# Altium integrated library NSC MiscPower.IntLib: 740 symbols (part 10 of 19)
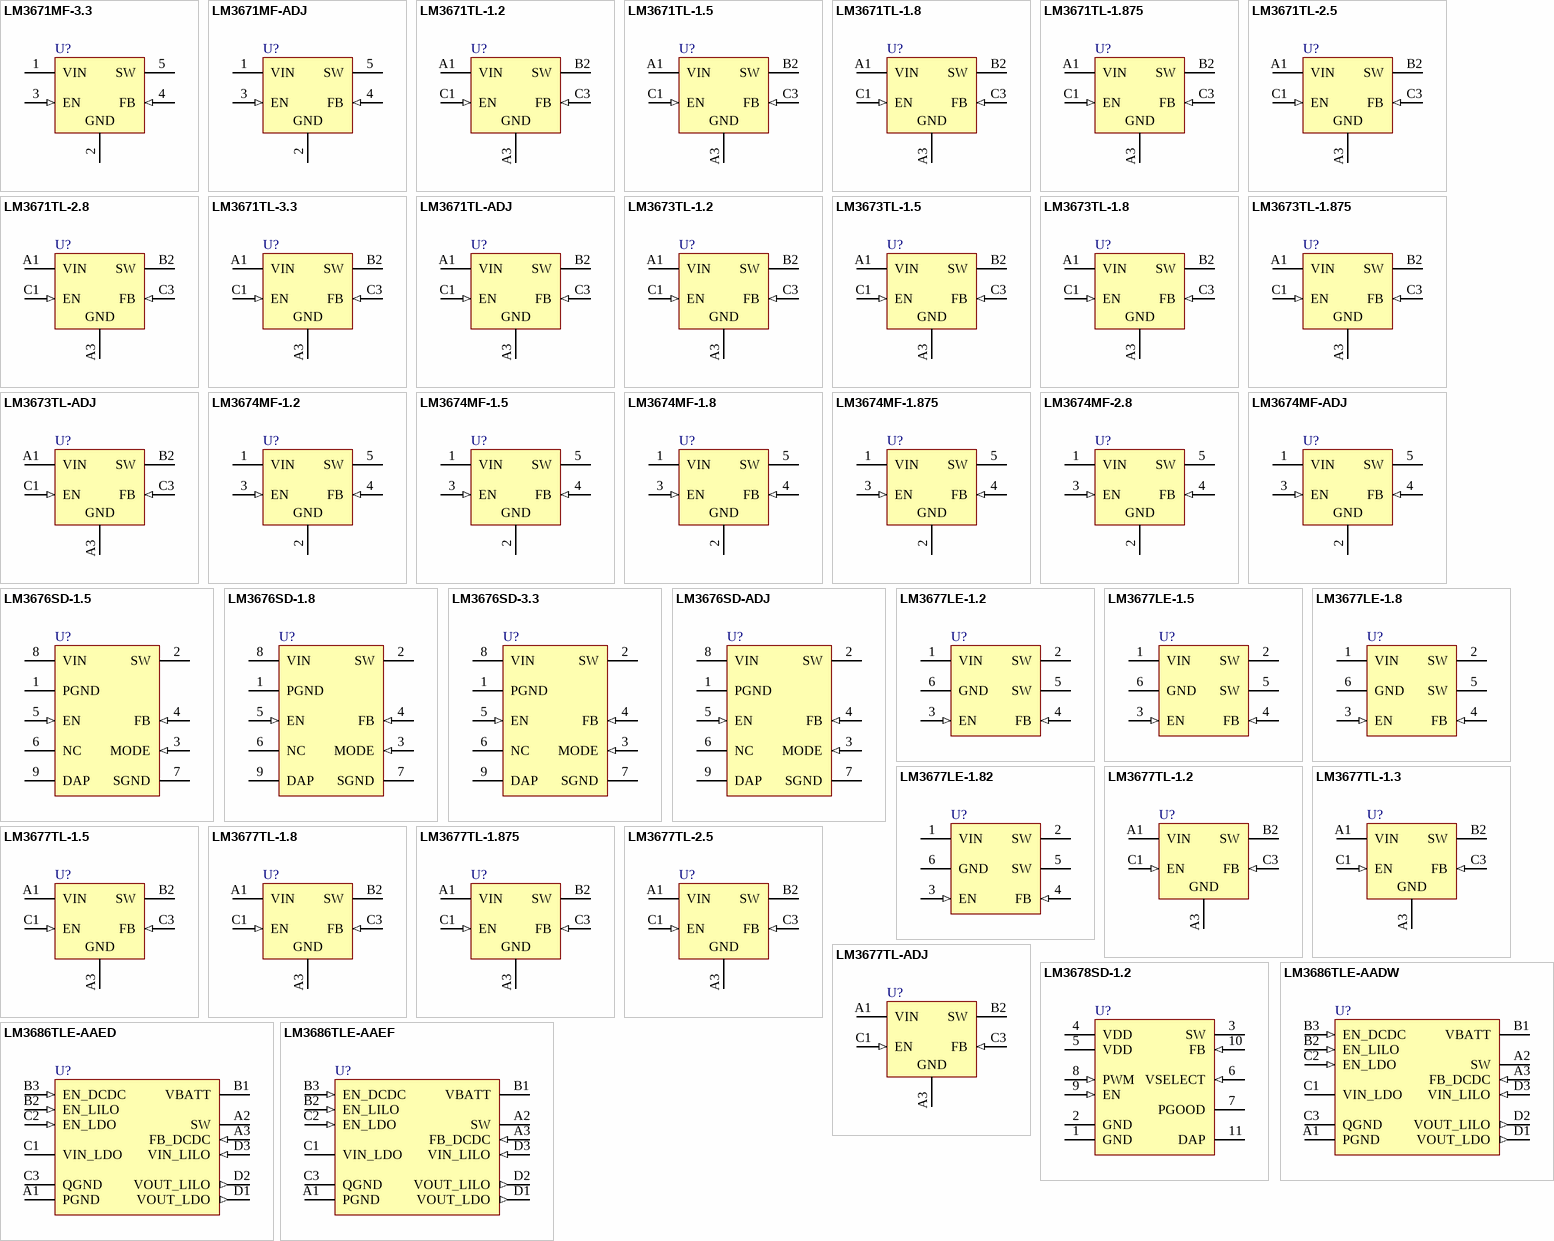
[diagram p34: symbols LM3671MF-3.3 to LM3686TLE-AAEF]

## LM3671TL-2.5
designator U?
2MHz, 600mA Step-Down DC-DC Converter; PartNumber: LM3671TL-2.5; Manufacturer: National Semiconductor; CompType: MiscPower; PackageTopMarking: XV*I L; PowerWise: Y; Published: 4-Dec-2008; DatasheetVersion: Nov-2007; PackageVersion: revC, Feb-2005; PackageReference: TLA05CBA; Publisher: Altium Limited; PackageDescription: Thin Micro SMD, 5 Bump (Large), 0.5mm Pitch; RoHS: Y; PinCount: 5; DigiKeyPartNumber: LM3671TL-2.5CT-ND; ComponentLink1Description: LM3671 Datasheet; ComponentLink1URL: http://www.national.com/ds/LM/LM3671.pdf; ComponentLink2Description: LM3671 Web Page; ComponentLink2URL: http://www.national.com/pf/LM/LM3671.html; ComponentLink3Description: TLA05CBA Package Page; ComponentLink3URL: http://www.national.com/packaging/folders/tla05cba.html
footprint TLA05CBA (Micro SMD, 5-Leads, Body 1.39x1.06mm, Pitch 0.5mm, NSC Recommended)
pins: A1 VIN (power), A3 GND (power), B2 SW (power), C1 EN (in), C3 FB (in)

## LM3671TL-2.8
designator U?
2MHz, 600mA Step-Down DC-DC Converter; PartNumber: LM3671TL-2.8; Manufacturer: National Semiconductor; CompType: MiscPower; PackageTopMarking: XV*I K; PowerWise: Y; Published: 4-Dec-2008; DatasheetVersion: Nov-2007; PackageVersion: revC, Feb-2005; PackageReference: TLA05CBA; Publisher: Altium Limited; PackageDescription: Thin Micro SMD, 5 Bump (Large), 0.5mm Pitch; RoHS: Y; PinCount: 5; DigiKeyPartNumber: LM3671TL-2.8CT-ND; ComponentLink1Description: LM3671 Datasheet; ComponentLink1URL: http://www.national.com/ds/LM/LM3671.pdf; ComponentLink2Description: LM3671 Web Page; ComponentLink2URL: http://www.national.com/pf/LM/LM3671.html; ComponentLink3Description: TLA05CBA Package Page; ComponentLink3URL: http://www.national.com/packaging/folders/tla05cba.html
footprint TLA05CBA (Micro SMD, 5-Leads, Body 1.39x1.06mm, Pitch 0.5mm, NSC Recommended)
pins: A1 VIN (power), A3 GND (power), B2 SW (power), C1 EN (in), C3 FB (in)

## LM3671TL-3.3
designator U?
2MHz, 600mA Step-Down DC-DC Converter; PartNumber: LM3671TL-3.3; Manufacturer: National Semiconductor; CompType: MiscPower; PackageTopMarking: XV*I J; PowerWise: Y; Published: 4-Dec-2008; DatasheetVersion: Nov-2007; PackageVersion: revC, Feb-2005; PackageReference: TLA05CBA; Publisher: Altium Limited; PackageDescription: Thin Micro SMD, 5 Bump (Large), 0.5mm Pitch; RoHS: Y; PinCount: 5; DigiKeyPartNumber: LM3671TL-3.3CT-ND; ComponentLink1Description: LM3671 Datasheet; ComponentLink1URL: http://www.national.com/ds/LM/LM3671.pdf; ComponentLink2Description: LM3671 Web Page; ComponentLink2URL: http://www.national.com/pf/LM/LM3671.html; ComponentLink3Description: TLA05CBA Package Page; ComponentLink3URL: http://www.national.com/packaging/folders/tla05cba.html
footprint TLA05CBA (Micro SMD, 5-Leads, Body 1.39x1.06mm, Pitch 0.5mm, NSC Recommended)
pins: A1 VIN (power), A3 GND (power), B2 SW (power), C1 EN (in), C3 FB (in)

## LM3671TL-ADJ
designator U?
2MHz, 600mA Step-Down DC-DC Converter; PartNumber: LM3671TL-ADJ; Manufacturer: National Semiconductor; CompType: MiscPower; PackageTopMarking: XV*I E; PowerWise: Y; Published: 4-Dec-2008; DatasheetVersion: Nov-2007; PackageVersion: revC, Feb-2005; PackageReference: TLA05CBA; Publisher: Altium Limited; PackageDescription: Thin Micro SMD, 5 Bump (Large), 0.5mm Pitch; RoHS: Y; PinCount: 5; DigiKeyPartNumber: LM3671TL-ADJCT-ND; ComponentLink1Description: LM3671 Datasheet; ComponentLink1URL: http://www.national.com/ds/LM/LM3671.pdf; ComponentLink2Description: LM3671 Web Page; ComponentLink2URL: http://www.national.com/pf/LM/LM3671.html; ComponentLink3Description: TLA05CBA Package Page; ComponentLink3URL: http://www.national.com/packaging/folders/tla05cba.html
footprint TLA05CBA (Micro SMD, 5-Leads, Body 1.39x1.06mm, Pitch 0.5mm, NSC Recommended)
pins: A1 VIN (power), A3 GND (power), B2 SW (power), C1 EN (in), C3 FB (in)

## LM3673TL-1.2
designator U?
2MHz, 350mA Step-Down DC-DC Converter; PartNumber: LM3673TL-1.2; Manufacturer: National Semiconductor; CompType: MiscPower; PackageTopMarking: XV*I 1; PowerWise: Y; Published: 4-Dec-2008; DatasheetVersion: Nov-2006; PackageVersion: revC, Feb-2005; PackageReference: TLA05CBA; Publisher: Altium Limited; PackageDescription: Thin Micro SMD, 5 Bump (Large), 0.5mm Pitch; RoHS: Y; PinCount: 5; DigiKeyPartNumber: LM3673TL-1.2CT-ND; ComponentLink1Description: LM3673 Datasheet; ComponentLink1URL: http://www.national.com/ds/LM/LM3673.pdf; ComponentLink2Description: LM3673 Web Page; ComponentLink2URL: http://www.national.com/pf/LM/LM3673.html; ComponentLink3Description: TLA05CBA Package Page; ComponentLink3URL: http://www.national.com/packaging/folders/tla05cba.html
footprint TLA05CBA (Micro SMD, 5-Leads, Body 1.39x1.06mm, Pitch 0.5mm, NSC Recommended)
pins: A1 VIN (power), A3 GND (power), B2 SW (power), C1 EN (in), C3 FB (in)

## LM3673TL-1.5
designator U?
2MHz, 350mA Step-Down DC-DC Converter; PartNumber: LM3673TL-1.5; Manufacturer: National Semiconductor; CompType: MiscPower; PackageTopMarking: XV*I H; PowerWise: Y; Published: 4-Dec-2008; DatasheetVersion: Nov-2006; PackageVersion: revC, Feb-2005; PackageReference: TLA05CBA; Publisher: Altium Limited; PackageDescription: Thin Micro SMD, 5 Bump (Large), 0.5mm Pitch; RoHS: Y; PinCount: 5; DigiKeyPartNumber: LM3673TL-1.5EV-ND; ComponentLink1Description: LM3673 Datasheet; ComponentLink1URL: http://www.national.com/ds/LM/LM3673.pdf; ComponentLink2Description: LM3673 Web Page; ComponentLink2URL: http://www.national.com/pf/LM/LM3673.html; ComponentLink3Description: TLA05CBA Package Page; ComponentLink3URL: http://www.national.com/packaging/folders/tla05cba.html
footprint TLA05CBA (Micro SMD, 5-Leads, Body 1.39x1.06mm, Pitch 0.5mm, NSC Recommended)
pins: A1 VIN (power), A3 GND (power), B2 SW (power), C1 EN (in), C3 FB (in)

## LM3673TL-1.8
designator U?
2MHz, 350mA Step-Down DC-DC Converter; PartNumber: LM3673TL-1.8; Manufacturer: National Semiconductor; CompType: MiscPower; PackageTopMarking: XV*I F; PowerWise: Y; Published: 4-Dec-2008; DatasheetVersion: Nov-2006; PackageVersion: revC, Feb-2005; PackageReference: TLA05CBA; Publisher: Altium Limited; PackageDescription: Thin Micro SMD, 5 Bump (Large), 0.5mm Pitch; RoHS: Y; PinCount: 5; DigiKeyPartNumber: LM3673TL-1.8CT-ND; ComponentLink1Description: LM3673 Datasheet; ComponentLink1URL: http://www.national.com/ds/LM/LM3673.pdf; ComponentLink2Description: LM3673 Web Page; ComponentLink2URL: http://www.national.com/pf/LM/LM3673.html; ComponentLink3Description: TLA05CBA Package Page; ComponentLink3URL: http://www.national.com/packaging/folders/tla05cba.html
footprint TLA05CBA (Micro SMD, 5-Leads, Body 1.39x1.06mm, Pitch 0.5mm, NSC Recommended)
pins: A1 VIN (power), A3 GND (power), B2 SW (power), C1 EN (in), C3 FB (in)

## LM3673TL-1.875
designator U?
2MHz, 350mA Step-Down DC-DC Converter; PartNumber: LM3673TL-1.875; Manufacturer: National Semiconductor; CompType: MiscPower; PackageTopMarking: XV*I 2; PowerWise: Y; Published: 4-Dec-2008; DatasheetVersion: Nov-2006; PackageVersion: revC, Feb-2005; PackageReference: TLA05CBA; Publisher: Altium Limited; PackageDescription: Thin Micro SMD, 5 Bump (Large), 0.5mm Pitch; RoHS: Y; PinCount: 5; DigiKeyPartNumber: LM3673TL-1.875CT-ND; ComponentLink1Description: LM3673 Datasheet; ComponentLink1URL: http://www.national.com/ds/LM/LM3673.pdf; ComponentLink2Description: LM3673 Web Page; ComponentLink2URL: http://www.national.com/pf/LM/LM3673.html; ComponentLink3Description: TLA05CBA Package Page; ComponentLink3URL: http://www.national.com/packaging/folders/tla05cba.html
footprint TLA05CBA (Micro SMD, 5-Leads, Body 1.39x1.06mm, Pitch 0.5mm, NSC Recommended)
pins: A1 VIN (power), A3 GND (power), B2 SW (power), C1 EN (in), C3 FB (in)

## LM3673TL-ADJ
designator U?
2MHz, 350mA Step-Down DC-DC Converter; PartNumber: LM3673TL-ADJ; Manufacturer: National Semiconductor; CompType: MiscPower; PackageTopMarking: XV*I R; PowerWise: Y; Published: 4-Dec-2008; DatasheetVersion: Nov-2006; PackageVersion: revC, Feb-2005; PackageReference: TLA05CBA; Publisher: Altium Limited; PackageDescription: Thin Micro SMD, 5 Bump (Large), 0.5mm Pitch; RoHS: Y; PinCount: 5; DigiKeyPartNumber: LM3673TL-ADJEV-ND; ComponentLink1Description: LM3673 Datasheet; ComponentLink1URL: http://www.national.com/ds/LM/LM3673.pdf; ComponentLink2Description: LM3673 Web Page; ComponentLink2URL: http://www.national.com/pf/LM/LM3673.html; ComponentLink3Description: TLA05CBA Package Page; ComponentLink3URL: http://www.national.com/packaging/folders/tla05cba.html
footprint TLA05CBA (Micro SMD, 5-Leads, Body 1.39x1.06mm, Pitch 0.5mm, NSC Recommended)
pins: A1 VIN (power), A3 GND (power), B2 SW (power), C1 EN (in), C3 FB (in)

## LM3674MF-1.2
designator U?
2MHz, 600mA Step-Down DC-DC Converter in SOT 23-5; PartNumber: LM3674MF-1.2; Manufacturer: National Semiconductor; CompType: MiscPower; PackageTopMarking: SLRB*XTT; PowerWise: Y; Published: 4-Dec-2008; DatasheetVersion: Sep-2006; PackageVersion: revD, Aug-2008; PackageReference: MF05A; Publisher: Altium Limited; PackageDescription: Molded SOT-23, .115 x .063 x .040 in Body, 5 Lead, .0375 in Pitch; RoHS: O; PinCount: 5; DigiKeyPartNumber: LM3674MF-1.2CT-ND; ComponentLink1Description: LM3674 Datasheet; ComponentLink1URL: http://www.national.com/ds/LM/LM3674.pdf; ComponentLink2Description: LM3674 Web Page; ComponentLink2URL: http://www.national.com/pf/LM/LM3674.html; ComponentLink3Description: MF05A Package Page; ComponentLink3URL: http://www.national.com/packaging/folders/mf05a.html
footprint MF05A_N (SOT23, 5-Leads, Body 2.9x1.6mm, Pitch 0.95mm, Lead Span 2.8mm, IPC Medium Density)
footprint MF05A_L (SOT23, 5-Leads, Body 2.9x1.6mm, Pitch 0.95mm, Lead Span 2.8mm, IPC High Density)
footprint MF05A_M (SOT23, 5-Leads, Body 2.9x1.6mm, Pitch 0.95mm, Lead Span 2.8mm, IPC Low Density)
pins: 1 VIN (power), 2 GND (power), 3 EN (in), 4 FB (in), 5 SW (power)

## LM3674MF-1.5
designator U?
2MHz, 600mA Step-Down DC-DC Converter in SOT 23-5; PartNumber: LM3674MF-1.5; Manufacturer: National Semiconductor; CompType: MiscPower; PackageTopMarking: SLSB*XTT; PowerWise: Y; Published: 4-Dec-2008; DatasheetVersion: Sep-2006; PackageVersion: revD, Aug-2008; PackageReference: MF05A; Publisher: Altium Limited; PackageDescription: Molded SOT-23, .115 x .063 x .040 in Body, 5 Lead, .0375 in Pitch; RoHS: Y; PinCount: 5; DigiKeyPartNumber: LM3674MF-1.5EV-ND; ComponentLink1Description: LM3674 Datasheet; ComponentLink1URL: http://www.national.com/ds/LM/LM3674.pdf; ComponentLink2Description: LM3674 Web Page; ComponentLink2URL: http://www.national.com/pf/LM/LM3674.html; ComponentLink3Description: MF05A Package Page; ComponentLink3URL: http://www.national.com/packaging/folders/mf05a.html
footprint MF05A_N (SOT23, 5-Leads, Body 2.9x1.6mm, Pitch 0.95mm, Lead Span 2.8mm, IPC Medium Density)
footprint MF05A_L (SOT23, 5-Leads, Body 2.9x1.6mm, Pitch 0.95mm, Lead Span 2.8mm, IPC High Density)
footprint MF05A_M (SOT23, 5-Leads, Body 2.9x1.6mm, Pitch 0.95mm, Lead Span 2.8mm, IPC Low Density)
pins: 1 VIN (power), 2 GND (power), 3 EN (in), 4 FB (in), 5 SW (power)

## LM3674MF-1.8
designator U?
2MHz, 600mA Step-Down DC-DC Converter in SOT 23-5; PartNumber: LM3674MF-1.8; Manufacturer: National Semiconductor; CompType: MiscPower; PackageTopMarking: SLHB*XTT; PowerWise: Y; Published: 4-Dec-2008; DatasheetVersion: Sep-2006; PackageVersion: revD, Aug-2008; PackageReference: MF05A; Publisher: Altium Limited; PackageDescription: Molded SOT-23, .115 x .063 x .040 in Body, 5 Lead, .0375 in Pitch; RoHS: O; PinCount: 5; DigiKeyPartNumber: LM3674MF-1.8EV-ND; ComponentLink1Description: LM3674 Datasheet; ComponentLink1URL: http://www.national.com/ds/LM/LM3674.pdf; ComponentLink2Description: LM3674 Web Page; ComponentLink2URL: http://www.national.com/pf/LM/LM3674.html; ComponentLink3Description: MF05A Package Page; ComponentLink3URL: http://www.national.com/packaging/folders/mf05a.html
footprint MF05A_N (SOT23, 5-Leads, Body 2.9x1.6mm, Pitch 0.95mm, Lead Span 2.8mm, IPC Medium Density)
footprint MF05A_L (SOT23, 5-Leads, Body 2.9x1.6mm, Pitch 0.95mm, Lead Span 2.8mm, IPC High Density)
footprint MF05A_M (SOT23, 5-Leads, Body 2.9x1.6mm, Pitch 0.95mm, Lead Span 2.8mm, IPC Low Density)
pins: 1 VIN (power), 2 GND (power), 3 EN (in), 4 FB (in), 5 SW (power)

## LM3674MF-1.875
designator U?
2MHz, 600mA Step-Down DC-DC Converter in SOT 23-5; PartNumber: LM3674MF-1.875; Manufacturer: National Semiconductor; CompType: MiscPower; PackageTopMarking: SNNB*XTT; PowerWise: Y; Published: 4-Dec-2008; DatasheetVersion: Sep-2006; PackageVersion: revD, Aug-2008; PackageReference: MF05A; Publisher: Altium Limited; PackageDescription: Molded SOT-23, .115 x .063 x .040 in Body, 5 Lead, .0375 in Pitch; RoHS: Y; PinCount: 5; DigiKeyPartNumber: LM3674MF-1.875CT-ND; ComponentLink1Description: LM3674 Datasheet; ComponentLink1URL: http://www.national.com/ds/LM/LM3674.pdf; ComponentLink2Description: LM3674 Web Page; ComponentLink2URL: http://www.national.com/pf/LM/LM3674.html; ComponentLink3Description: MF05A Package Page; ComponentLink3URL: http://www.national.com/packaging/folders/mf05a.html
footprint MF05A_N (SOT23, 5-Leads, Body 2.9x1.6mm, Pitch 0.95mm, Lead Span 2.8mm, IPC Medium Density)
footprint MF05A_L (SOT23, 5-Leads, Body 2.9x1.6mm, Pitch 0.95mm, Lead Span 2.8mm, IPC High Density)
footprint MF05A_M (SOT23, 5-Leads, Body 2.9x1.6mm, Pitch 0.95mm, Lead Span 2.8mm, IPC Low Density)
pins: 1 VIN (power), 2 GND (power), 3 EN (in), 4 FB (in), 5 SW (power)

## LM3674MF-2.8
designator U?
2MHz, 600mA Step-Down DC-DC Converter in SOT 23-5; PartNumber: LM3674MF-2.8; Manufacturer: National Semiconductor; CompType: MiscPower; PackageTopMarking: SLZB*XTT; PowerWise: Y; Published: 4-Dec-2008; DatasheetVersion: Sep-2006; PackageVersion: revD, Aug-2008; PackageReference: MF05A; Publisher: Altium Limited; PackageDescription: Molded SOT-23, .115 x .063 x .040 in Body, 5 Lead, .0375 in Pitch; RoHS: Y; PinCount: 5; DigiKeyPartNumber: LM3674MF-2.8CT-ND; ComponentLink1Description: LM3674 Datasheet; ComponentLink1URL: http://www.national.com/ds/LM/LM3674.pdf; ComponentLink2Description: LM3674 Web Page; ComponentLink2URL: http://www.national.com/pf/LM/LM3674.html; ComponentLink3Description: MF05A Package Page; ComponentLink3URL: http://www.national.com/packaging/folders/mf05a.html
footprint MF05A_N (SOT23, 5-Leads, Body 2.9x1.6mm, Pitch 0.95mm, Lead Span 2.8mm, IPC Medium Density)
footprint MF05A_L (SOT23, 5-Leads, Body 2.9x1.6mm, Pitch 0.95mm, Lead Span 2.8mm, IPC High Density)
footprint MF05A_M (SOT23, 5-Leads, Body 2.9x1.6mm, Pitch 0.95mm, Lead Span 2.8mm, IPC Low Density)
pins: 1 VIN (power), 2 GND (power), 3 EN (in), 4 FB (in), 5 SW (power)

## LM3674MF-ADJ
designator U?
2MHz, 600mA Step-Down DC-DC Converter in SOT 23-5; PartNumber: LM3674MF-ADJ; Manufacturer: National Semiconductor; CompType: MiscPower; PackageTopMarking: SLTB*XTT; PowerWise: Y; Published: 4-Dec-2008; DatasheetVersion: Sep-2006; PackageVersion: revD, Aug-2008; PackageReference: MF05A; Publisher: Altium Limited; PackageDescription: Molded SOT-23, .115 x .063 x .040 in Body, 5 Lead, .0375 in Pitch; RoHS: O; PinCount: 5; DigiKeyPartNumber: LM3674MF-ADJEV-ND; ComponentLink1Description: LM3674 Datasheet; ComponentLink1URL: http://www.national.com/ds/LM/LM3674.pdf; ComponentLink2Description: LM3674 Web Page; ComponentLink2URL: http://www.national.com/pf/LM/LM3674.html; ComponentLink3Description: MF05A Package Page; ComponentLink3URL: http://www.national.com/packaging/folders/mf05a.html
footprint MF05A_N (SOT23, 5-Leads, Body 2.9x1.6mm, Pitch 0.95mm, Lead Span 2.8mm, IPC Medium Density)
footprint MF05A_L (SOT23, 5-Leads, Body 2.9x1.6mm, Pitch 0.95mm, Lead Span 2.8mm, IPC High Density)
footprint MF05A_M (SOT23, 5-Leads, Body 2.9x1.6mm, Pitch 0.95mm, Lead Span 2.8mm, IPC Low Density)
pins: 1 VIN (power), 2 GND (power), 3 EN (in), 4 FB (in), 5 SW (power)

## LM3676SD-1.5
designator U?
2MHz, 600mA Step-Down DC-DC Converter with Mode Control; PartNumber: LM3676SD-1.5; Manufacturer: National Semiconductor; CompType: MiscPower; PackageTopMarking: ZXYTT*S007B; PowerWise: N; Published: 4-Dec-2008; DatasheetVersion: Dec-2006; PackageVersion: revA, Aug-2003; PackageReference: SDA08A; Publisher: Altium Limited; PackageDescription: LLP, Plastic, Dual, 3 x 3 x 0.8mm Body, 8 Lead, 0.5mm Pitch, No Pullback; RoHS: Y; PinCount: 8; DigiKeyPartNumber: LM3676SD-1.5CT-ND; ComponentLink1Description: LM3676 Datasheet; ComponentLink1URL: http://www.national.com/ds/LM/LM3676.pdf; ComponentLink2Description: LM3676 Web Page; ComponentLink2URL: http://www.national.com/pf/LM/LM3676.html; ComponentLink3Description: SDA08A Package Page; ComponentLink3URL: http://www.national.com/packaging/folders/sda08a.html
footprint SDA08A (SON, 8-Leads, Body 3x3mm, Pitch 0.5mm, NSC Recommended)
pins: 1 PGND (power), 2 SW (power), 3 MODE (in), 4 FB (in), 5 EN (in), 6 NC, 7 SGND (power), 8 VIN (power), 9 DAP (power)

## LM3676SD-1.8
designator U?
2MHz, 600mA Step-Down DC-DC Converter with Mode Control; PartNumber: LM3676SD-1.8; Manufacturer: National Semiconductor; CompType: MiscPower; PackageTopMarking: ZXYTT*S009B; PowerWise: N; Published: 4-Dec-2008; DatasheetVersion: Dec-2006; PackageVersion: revA, Aug-2003; PackageReference: SDA08A; Publisher: Altium Limited; PackageDescription: LLP, Plastic, Dual, 3 x 3 x 0.8mm Body, 8 Lead, 0.5mm Pitch, No Pullback; RoHS: Y; PinCount: 8; DigiKeyPartNumber: LM3676SD-1.8CT-ND; ComponentLink1Description: LM3676 Datasheet; ComponentLink1URL: http://www.national.com/ds/LM/LM3676.pdf; ComponentLink2Description: LM3676 Web Page; ComponentLink2URL: http://www.national.com/pf/LM/LM3676.html; ComponentLink3Description: SDA08A Package Page; ComponentLink3URL: http://www.national.com/packaging/folders/sda08a.html
footprint SDA08A (SON, 8-Leads, Body 3x3mm, Pitch 0.5mm, NSC Recommended)
pins: 1 PGND (power), 2 SW (power), 3 MODE (in), 4 FB (in), 5 EN (in), 6 NC, 7 SGND (power), 8 VIN (power), 9 DAP (power)

## LM3676SD-3.3
designator U?
2MHz, 600mA Step-Down DC-DC Converter with Mode Control; PartNumber: LM3676SD-3.3; Manufacturer: National Semiconductor; CompType: MiscPower; PackageTopMarking: ZXYTT*S010B; PowerWise: N; Published: 4-Dec-2008; DatasheetVersion: Dec-2006; PackageVersion: revA, Aug-2003; PackageReference: SDA08A; Publisher: Altium Limited; PackageDescription: LLP, Plastic, Dual, 3 x 3 x 0.8mm Body, 8 Lead, 0.5mm Pitch, No Pullback; RoHS: Y; PinCount: 8; DigiKeyPartNumber: LM3676SD-3.3CT-ND; ComponentLink1Description: LM3676 Datasheet; ComponentLink1URL: http://www.national.com/ds/LM/LM3676.pdf; ComponentLink2Description: LM3676 Web Page; ComponentLink2URL: http://www.national.com/pf/LM/LM3676.html; ComponentLink3Description: SDA08A Package Page; ComponentLink3URL: http://www.national.com/packaging/folders/sda08a.html
footprint SDA08A (SON, 8-Leads, Body 3x3mm, Pitch 0.5mm, NSC Recommended)
pins: 1 PGND (power), 2 SW (power), 3 MODE (in), 4 FB (in), 5 EN (in), 6 NC, 7 SGND (power), 8 VIN (power), 9 DAP (power)

## LM3676SD-ADJ
designator U?
2MHz, 600mA Step-Down DC-DC Converter with Mode Control; PartNumber: LM3676SD-ADJ; Manufacturer: National Semiconductor; CompType: MiscPower; PackageTopMarking: ZXYTT*S008B; PowerWise: N; Published: 4-Dec-2008; DatasheetVersion: Dec-2006; PackageVersion: revA, Aug-2003; PackageReference: SDA08A; Publisher: Altium Limited; PackageDescription: LLP, Plastic, Dual, 3 x 3 x 0.8mm Body, 8 Lead, 0.5mm Pitch, No Pullback; RoHS: Y; PinCount: 8; DigiKeyPartNumber: LM3676SD-ADJEV-ND; ComponentLink1Description: LM3676 Datasheet; ComponentLink1URL: http://www.national.com/ds/LM/LM3676.pdf; ComponentLink2Description: LM3676 Web Page; ComponentLink2URL: http://www.national.com/pf/LM/LM3676.html; ComponentLink3Description: SDA08A Package Page; ComponentLink3URL: http://www.national.com/packaging/folders/sda08a.html
footprint SDA08A (SON, 8-Leads, Body 3x3mm, Pitch 0.5mm, NSC Recommended)
pins: 1 PGND (power), 2 SW (power), 3 MODE (in), 4 FB (in), 5 EN (in), 6 NC, 7 SGND (power), 8 VIN (power), 9 DAP (power)

## LM3677LE-1.2
designator U?
3MHz, 600mA Miniature Step-Down DC-DC Converter for Ultra Low Voltage Circuits; PartNumber: LM3677LE-1.2; Manufacturer: National Semiconductor; CompType: MiscPower; PackageTopMarking: XVK; PowerWise: N; Published: 4-Dec-2008; DatasheetVersion: Feb-2008; PackageVersion: revB, Apr-2008; PackageReference: LEB06A; Publisher: Altium Limited; PackageDescription: LLP, 2 x 1.5 x 0.6mm, 6 Lead, 0.5mm Pitch, No Pullback; RoHS: Y; PinCount: 6; DigiKeyPartNumber: LM3677LE-1.2-ND; ComponentLink1Description: LM3677 Datasheet; ComponentLink1URL: http://www.national.com/ds/LM/LM3677.pdf; ComponentLink2Description: LM3677 Web Page; ComponentLink2URL: http://www.national.com/pf/LM/LM3677.html; ComponentLink3Description: LEB06A Package Page; ComponentLink3URL: http://www.national.com/packaging/folders/leb06a.html
footprint LEB06A (SON, 6-Leads, Body 2x1.5mm, Pitch 0.5mm, NSC Recommended)
pins: 1 VIN (power), 2 SW (power), 3 EN (in), 4 FB (in), 5 SW (power), 6 GND (power)

## LM3677LE-1.5
designator U?
3MHz, 600mA Miniature Step-Down DC-DC Converter for Ultra Low Voltage Circuits; PartNumber: LM3677LE-1.5; Manufacturer: National Semiconductor; CompType: MiscPower; PackageTopMarking: XVL; PowerWise: N; Published: 4-Dec-2008; DatasheetVersion: Feb-2008; PackageVersion: revB, Apr-2008; PackageReference: LEB06A; Publisher: Altium Limited; PackageDescription: LLP, 2 x 1.5 x 0.6mm, 6 Lead, 0.5mm Pitch, No Pullback; RoHS: Y; PinCount: 6; DigiKeyPartNumber: LM3677LE-1.5-ND; ComponentLink1Description: LM3677 Datasheet; ComponentLink1URL: http://www.national.com/ds/LM/LM3677.pdf; ComponentLink2Description: LM3677 Web Page; ComponentLink2URL: http://www.national.com/pf/LM/LM3677.html; ComponentLink3Description: LEB06A Package Page; ComponentLink3URL: http://www.national.com/packaging/folders/leb06a.html
footprint LEB06A (SON, 6-Leads, Body 2x1.5mm, Pitch 0.5mm, NSC Recommended)
pins: 1 VIN (power), 2 SW (power), 3 EN (in), 4 FB (in), 5 SW (power), 6 GND (power)

## LM3677LE-1.8
designator U?
3MHz, 600mA Miniature Step-Down DC-DC Converter for Ultra Low Voltage Circuits; PartNumber: LM3677LE-1.8; Manufacturer: National Semiconductor; CompType: MiscPower; PackageTopMarking: XVN; PowerWise: Y; Published: 4-Dec-2008; DatasheetVersion: Feb-2008; PackageVersion: revB, Apr-2008; PackageReference: LEB06A; Publisher: Altium Limited; PackageDescription: LLP, 2 x 1.5 x 0.6mm, 6 Lead, 0.5mm Pitch, No Pullback; RoHS: Y; PinCount: 6; DigiKeyPartNumber: LM3677LE-1.8-ND; ComponentLink1Description: LM3677 Datasheet; ComponentLink1URL: http://www.national.com/ds/LM/LM3677.pdf; ComponentLink2Description: LM3677 Web Page; ComponentLink2URL: http://www.national.com/pf/LM/LM3677.html; ComponentLink3Description: LEB06A Package Page; ComponentLink3URL: http://www.national.com/packaging/folders/leb06a.html
footprint LEB06A (SON, 6-Leads, Body 2x1.5mm, Pitch 0.5mm, NSC Recommended)
pins: 1 VIN (power), 2 SW (power), 3 EN (in), 4 FB (in), 5 SW (power), 6 GND (power)

## LM3677LE-1.82
designator U?
3MHz, 600mA Miniature Step-Down DC-DC Converter for Ultra Low Voltage Circuits; PartNumber: LM3677LE-1.82; Manufacturer: National Semiconductor; CompType: MiscPower; PackageTopMarking: XV5; PowerWise: N; Published: 4-Dec-2008; DatasheetVersion: Feb-2008; PackageVersion: revB, Apr-2008; PackageReference: LEB06A; Publisher: Altium Limited; PackageDescription: LLP, 2 x 1.5 x 0.6mm, 6 Lead, 0.5mm Pitch, No Pullback; RoHS: Y; PinCount: 6; ComponentLink1Description: LM3677 Datasheet; ComponentLink1URL: http://www.national.com/ds/LM/LM3677.pdf; ComponentLink2Description: LM3677 Web Page; ComponentLink2URL: http://www.national.com/pf/LM/LM3677.html; ComponentLink3Description: LEB06A Package Page; ComponentLink3URL: http://www.national.com/packaging/folders/leb06a.html
footprint LEB06A (SON, 6-Leads, Body 2x1.5mm, Pitch 0.5mm, NSC Recommended)
pins: 1 VIN (power), 2 SW (power), 3 EN (in), 4 FB (in), 5 SW (power), 6 GND (power)

## LM3677TL-1.2
designator U?
3MHz, 600mA Miniature Step-Down DC-DC Converter for Ultra Low Voltage Circuits; PartNumber: LM3677TL-1.2; Manufacturer: National Semiconductor; CompType: MiscPower; PackageTopMarking: XV*I 3; PowerWise: N; Published: 4-Dec-2008; DatasheetVersion: Feb-2008; PackageVersion: revC, Feb-2005; PackageReference: TLA05EFA; Publisher: Altium Limited; PackageDescription: Thin Micro SMD, 5 Bump (Large), 0.5mm Pitch; RoHS: Y; PinCount: 5; DigiKeyPartNumber: LM3677TL-1.2-ND; ComponentLink1Description: LM3677 Datasheet; ComponentLink1URL: http://www.national.com/ds/LM/LM3677.pdf; ComponentLink2Description: LM3677 Web Page; ComponentLink2URL: http://www.national.com/pf/LM/LM3677.html; ComponentLink3Description: TLA05EFA Package Page; ComponentLink3URL: http://www.national.com/packaging/folders/tla05efa.html
footprint TLA05EFA (Micro SMD, 5-Leads, Body 1.49x1.11mm, Pitch 0.5mm, NSC Recommended)
pins: A1 VIN (power), A3 GND (power), B2 SW (power), C1 EN (in), C3 FB (in)

## LM3677TL-1.3
designator U?
3MHz, 600mA Miniature Step-Down DC-DC Converter for Ultra Low Voltage Circuits; PartNumber: LM3677TL-1.3; Manufacturer: National Semiconductor; CompType: MiscPower; PackageTopMarking: XV*I V; PowerWise: Y; Published: 4-Dec-2008; DatasheetVersion: Feb-2008; PackageVersion: revC, Feb-2005; PackageReference: TLA05EFA; Publisher: Altium Limited; PackageDescription: Thin Micro SMD, 5 Bump (Large), 0.5mm Pitch; RoHS: Y; PinCount: 5; DigiKeyPartNumber: LM3677TL-1.3CT-ND; ComponentLink1Description: LM3677 Datasheet; ComponentLink1URL: http://www.national.com/ds/LM/LM3677.pdf; ComponentLink2Description: LM3677 Web Page; ComponentLink2URL: http://www.national.com/pf/LM/LM3677.html; ComponentLink3Description: TLA05EFA Package Page; ComponentLink3URL: http://www.national.com/packaging/folders/tla05efa.html
footprint TLA05EFA (Micro SMD, 5-Leads, Body 1.49x1.11mm, Pitch 0.5mm, NSC Recommended)
pins: A1 VIN (power), A3 GND (power), B2 SW (power), C1 EN (in), C3 FB (in)

## LM3677TL-1.5
designator U?
3MHz, 600mA Miniature Step-Down DC-DC Converter for Ultra Low Voltage Circuits; PartNumber: LM3677TL-1.5; Manufacturer: National Semiconductor; CompType: MiscPower; PackageTopMarking: XV*I X; PowerWise: Y; Published: 4-Dec-2008; DatasheetVersion: Feb-2008; PackageVersion: revC, Feb-2005; PackageReference: TLA05EFA; Publisher: Altium Limited; PackageDescription: Thin Micro SMD, 5 Bump (Large), 0.5mm Pitch; RoHS: Y; PinCount: 5; DigiKeyPartNumber: LM3677TL-1.5CT-ND; ComponentLink1Description: LM3677 Datasheet; ComponentLink1URL: http://www.national.com/ds/LM/LM3677.pdf; ComponentLink2Description: LM3677 Web Page; ComponentLink2URL: http://www.national.com/pf/LM/LM3677.html; ComponentLink3Description: TLA05EFA Package Page; ComponentLink3URL: http://www.national.com/packaging/folders/tla05efa.html
footprint TLA05EFA (Micro SMD, 5-Leads, Body 1.49x1.11mm, Pitch 0.5mm, NSC Recommended)
pins: A1 VIN (power), A3 GND (power), B2 SW (power), C1 EN (in), C3 FB (in)

## LM3677TL-1.8
designator U?
3MHz, 600mA Miniature Step-Down DC-DC Converter for Ultra Low Voltage Circuits; PartNumber: LM3677TL-1.8; Manufacturer: National Semiconductor; CompType: MiscPower; PackageTopMarking: XV*I Y; PowerWise: Y; Published: 4-Dec-2008; DatasheetVersion: Feb-2008; PackageVersion: revC, Feb-2005; PackageReference: TLA05EFA; Publisher: Altium Limited; PackageDescription: Thin Micro SMD, 5 Bump (Large), 0.5mm Pitch; RoHS: Y; PinCount: 5; DigiKeyPartNumber: LM3677TL-1.8EV-ND; ComponentLink1Description: LM3677 Datasheet; ComponentLink1URL: http://www.national.com/ds/LM/LM3677.pdf; ComponentLink2Description: LM3677 Web Page; ComponentLink2URL: http://www.national.com/pf/LM/LM3677.html; ComponentLink3Description: TLA05EFA Package Page; ComponentLink3URL: http://www.national.com/packaging/folders/tla05efa.html
footprint TLA05EFA (Micro SMD, 5-Leads, Body 1.49x1.11mm, Pitch 0.5mm, NSC Recommended)
pins: A1 VIN (power), A3 GND (power), B2 SW (power), C1 EN (in), C3 FB (in)

## LM3677TL-1.875
designator U?
3MHz, 600mA Miniature Step-Down DC-DC Converter for Ultra Low Voltage Circuits; PartNumber: LM3677TL-1.875; Manufacturer: National Semiconductor; CompType: MiscPower; PackageTopMarking: XV*I 9; PowerWise: N; Published: 4-Dec-2008; DatasheetVersion: Feb-2008; PackageVersion: revC, Feb-2005; PackageReference: TLA05EFA; Publisher: Altium Limited; PackageDescription: Thin Micro SMD, 5 Bump (Large), 0.5mm Pitch; RoHS: Y; PinCount: 5; ComponentLink1Description: LM3677 Datasheet; ComponentLink1URL: http://www.national.com/ds/LM/LM3677.pdf; ComponentLink2Description: LM3677 Web Page; ComponentLink2URL: http://www.national.com/pf/LM/LM3677.html; ComponentLink3Description: TLA05EFA Package Page; ComponentLink3URL: http://www.national.com/packaging/folders/tla05efa.html
footprint TLA05EFA (Micro SMD, 5-Leads, Body 1.49x1.11mm, Pitch 0.5mm, NSC Recommended)
pins: A1 VIN (power), A3 GND (power), B2 SW (power), C1 EN (in), C3 FB (in)

## LM3677TL-2.5
designator U?
3MHz, 600mA Miniature Step-Down DC-DC Converter for Ultra Low Voltage Circuits; PartNumber: LM3677TL-2.5; Manufacturer: National Semiconductor; CompType: MiscPower; PackageTopMarking: XV*I Z; PowerWise: Y; Published: 4-Dec-2008; DatasheetVersion: Feb-2008; PackageVersion: revC, Feb-2005; PackageReference: TLA05EFA; Publisher: Altium Limited; PackageDescription: Thin Micro SMD, 5 Bump (Large), 0.5mm Pitch; RoHS: Y; PinCount: 5; DigiKeyPartNumber: LM3677TL-2.5CT-ND; ComponentLink1Description: LM3677 Datasheet; ComponentLink1URL: http://www.national.com/ds/LM/LM3677.pdf; ComponentLink2Description: LM3677 Web Page; ComponentLink2URL: http://www.national.com/pf/LM/LM3677.html; ComponentLink3Description: TLA05EFA Package Page; ComponentLink3URL: http://www.national.com/packaging/folders/tla05efa.html
footprint TLA05EFA (Micro SMD, 5-Leads, Body 1.49x1.11mm, Pitch 0.5mm, NSC Recommended)
pins: A1 VIN (power), A3 GND (power), B2 SW (power), C1 EN (in), C3 FB (in)

## LM3677TL-ADJ
designator U?
3MHz, 600mA Miniature Step-Down DC-DC Converter for Ultra Low Voltage Circuits; PartNumber: LM3677TL-ADJ; Manufacturer: National Semiconductor; CompType: MiscPower; PackageTopMarking: XV*I 4; PowerWise: N; Published: 4-Dec-2008; DatasheetVersion: Feb-2008; PackageVersion: revC, Feb-2005; PackageReference: TLA05EFA; Publisher: Altium Limited; PackageDescription: Thin Micro SMD, 5 Bump (Large), 0.5mm Pitch; RoHS: Y; PinCount: 5; DigiKeyPartNumber: LM3677TL-ADJ-ND; ComponentLink1Description: LM3677 Datasheet; ComponentLink1URL: http://www.national.com/ds/LM/LM3677.pdf; ComponentLink2Description: LM3677 Web Page; ComponentLink2URL: http://www.national.com/pf/LM/LM3677.html; ComponentLink3Description: TLA05EFA Package Page; ComponentLink3URL: http://www.national.com/packaging/folders/tla05efa.html
footprint TLA05EFA (Micro SMD, 5-Leads, Body 1.49x1.11mm, Pitch 0.5mm, NSC Recommended)
pins: A1 VIN (power), A3 GND (power), B2 SW (power), C1 EN (in), C3 FB (in)

## LM3678SD-1.2
designator U?
High-Performance, Miniature 1.5A Step-Down DC-DC Converter for Handheld Applications; PartNumber: LM3678SD-1.2; Manufacturer: National Semiconductor; CompType: MiscPower; PackageTopMarking: ZXYTT*S021B; PowerWise: Y; Published: 4-Dec-2008; DatasheetVersion: Jul-2008; PackageVersion: revA, Oct-2003; PackageReference: SDA10A; Publisher: Altium Limited; PackageDescription: LLP, Plastic, Dual, 3 x 3 x 0.8mm Body, 10 Lead, 0.5mm Pitch, No Pullback; RoHS: Y; PinCount: 10; DigiKeyPartNumber: LM3678SD-1.2EV-ND; ComponentLink1Description: LM3678 Datasheet; ComponentLink1URL: http://www.national.com/ds/LM/LM3678.pdf; ComponentLink2Description: LM3678 Web Page; ComponentLink2URL: http://www.national.com/pf/LM/LM3678.html; ComponentLink3Description: SDA10A Package Page; ComponentLink3URL: http://www.national.com/packaging/folders/sda10a.html
footprint SDA10A (SON, 10-Leads, Body 3x3 mm, Pitch 0.5mm, NSC Recommended)
pins: 1 GND (power), 2 GND (power), 3 SW (power), 4 VDD (power), 5 VDD (power), 6 VSELECT (in), 7 PGOOD (oc), 8 PWM (in), 9 EN (in), 10 FB (in), 11 DAP (power)

## LM3686TLE-AADW
designator U?
Step-Down DC-DC Converter with Integrated Post Linear Regulators System and Low-Noise Linear Regulator; PartNumber: LM3686TLE-AADW; Manufacturer: National Semiconductor; CompType: MiscPower; PackageTopMarking: XYTT*I SUEB; PowerWise: N; Published: 4-Dec-2008; DatasheetVersion: Dec-2008; PackageVersion: revC, Jan-2004; PackageReference: TLA12HTA; Publisher: Altium Limited; PackageDescription: Thin Micro SMD, 12 Bump (Large), Area Array, 0.5mm Pitch; RoHS: Y; PinCount: 12; Code_JEDEC: MO-211-DE; ComponentLink1Description: LM3686 Datasheet; ComponentLink1URL: http://www.national.com/ds/LM/LM3686.pdf; ComponentLink2Description: LM3686 Web Page; ComponentLink2URL: http://www.national.com/pf/LM/LM3686.html; ComponentLink3Description: TLA12HTA Package Page; ComponentLink3URL: http://www.national.com/packaging/folders/tla12hta.html
footprint TLA12HTA (Micro SMD, 12-Leads, Body 2.43x1.69mm, Pitch 0.5mm, NSC Recommended)
pins: A1 PGND (power), A2 SW (power), A3 FB_DCDC (in), B1 VBATT (power), B2 EN_LILO (in), B3 EN_DCDC (in), C1 VIN_LDO (power), C2 EN_LDO (in), C3 QGND (power), D1 VOUT_LDO (out), D2 VOUT_LILO (out), D3 VIN_LILO (in)

## LM3686TLE-AAED
designator U?
Step-Down DC-DC Converter with Integrated Post Linear Regulators System and Low-Noise Linear Regulator; PartNumber: LM3686TLE-AAED; Manufacturer: National Semiconductor; CompType: MiscPower; PackageTopMarking: XYTT*I SXTB; PowerWise: N; Published: 29-May-2009; DatasheetVersion: Dec-2008; PackageVersion: revC, Jan-2004; PackageReference: TLA12HTA; Publisher: Altium Limited; PackageDescription: Thin Micro SMD, 12 Bump (Large), Area Array, 0.5mm Pitch; RoHS: Y; PinCount: 12; DigiKeyPartNumber: LM3686TLE-AAEDCT-ND; Code_JEDEC: MO-211-DE; ComponentLink1Description: LM3686 Datasheet; ComponentLink1URL: http://www.national.com/ds/LM/LM3686.pdf; ComponentLink2Description: LM3686 Web Page; ComponentLink2URL: http://www.national.com/pf/LM/LM3686.html; ComponentLink3Description: TLA12HTA Package Page; ComponentLink3URL: http://www.national.com/packaging/folders/tla12hta.html
footprint TLA12HTA (Micro SMD, 12-Leads, Body 2.43x1.69mm, Pitch 0.5mm, NSC Recommended)
pins: A1 PGND (power), A2 SW (power), A3 FB_DCDC (in), B1 VBATT (power), B2 EN_LILO (in), B3 EN_DCDC (in), C1 VIN_LDO (power), C2 EN_LDO (in), C3 QGND (power), D1 VOUT_LDO (out), D2 VOUT_LILO (out), D3 VIN_LILO (in)

## LM3686TLE-AAEF
designator U?
Step-Down DC-DC Converter with Integrated Post Linear Regulators System and Low-Noise Linear Regulator; PartNumber: LM3686TLE-AAEF; Manufacturer: National Semiconductor; CompType: MiscPower; PackageTopMarking: XYTT*I SXZB; PowerWise: N; Published: 29-May-2009; DatasheetVersion: Dec-2008; PackageVersion: revC, Jan-2004; PackageReference: TLA12HTA; Publisher: Altium Limited; PackageDescription: Thin Micro SMD, 12 Bump (Large), Area Array, 0.5mm Pitch; RoHS: Y; PinCount: 12; Code_JEDEC: MO-211-DE; ComponentLink1Description: LM3686 Datasheet; ComponentLink1URL: http://www.national.com/ds/LM/LM3686.pdf; ComponentLink2Description: LM3686 Web Page; ComponentLink2URL: http://www.national.com/pf/LM/LM3686.html; ComponentLink3Description: TLA12HTA Package Page; ComponentLink3URL: http://www.national.com/packaging/folders/tla12hta.html
footprint TLA12HTA (Micro SMD, 12-Leads, Body 2.43x1.69mm, Pitch 0.5mm, NSC Recommended)
pins: A1 PGND (power), A2 SW (power), A3 FB_DCDC (in), B1 VBATT (power), B2 EN_LILO (in), B3 EN_DCDC (in), C1 VIN_LDO (power), C2 EN_LDO (in), C3 QGND (power), D1 VOUT_LDO (out), D2 VOUT_LILO (out), D3 VIN_LILO (in)

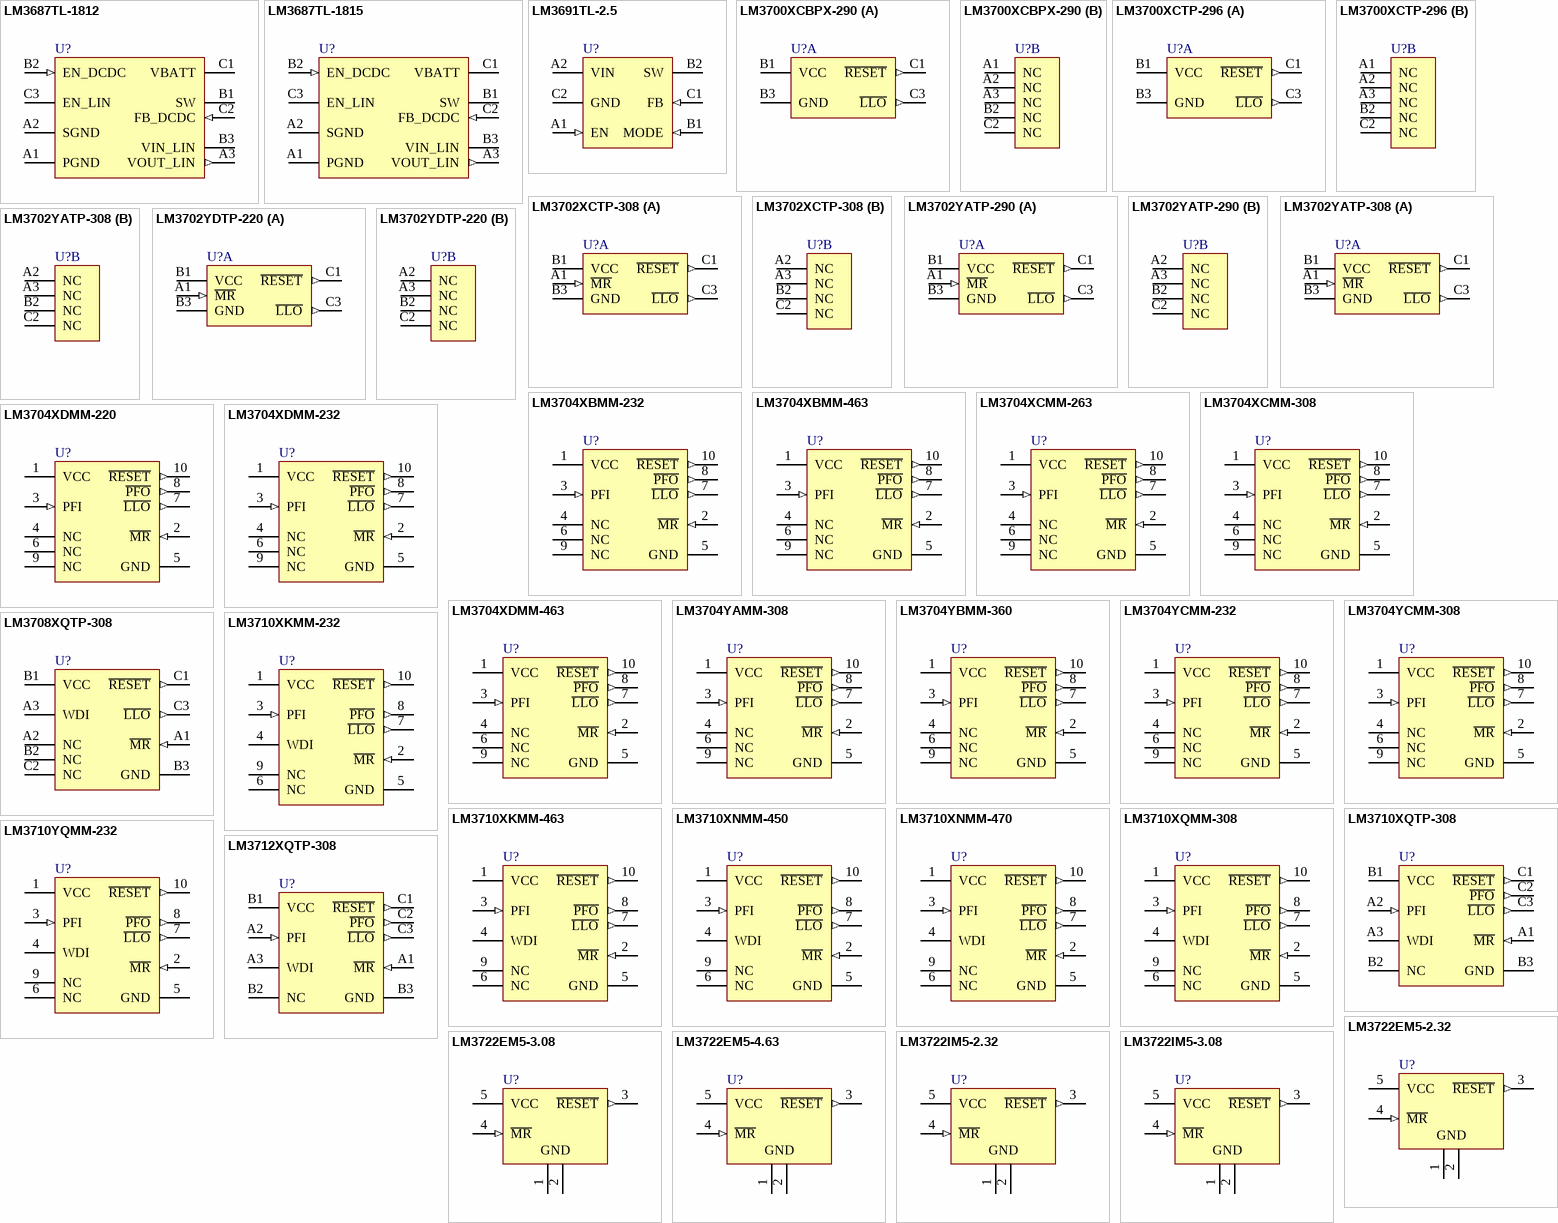
[diagram p12: symbols LM3687TL-1812 to LM3722IM5-3.08]

## LM3687TL-1812
designator U?
Step-Down DC-DC Converter with Integrated Low Dropout Regulator and Startup Mode; PartNumber: LM3687TL-1812; Manufacturer: National Semiconductor; CompType: MiscPower; PackageTopMarking: XV*I SB; PowerWise: N; Published: 4-Dec-2008; DatasheetVersion: Jul-2008; PackageVersion: revC, Jan-2004; PackageReference: TLA09BBA; Publisher: Altium Limited; PackageDescription: Thin Micro SMD, 9 Bump (Large), 0.5mm Pitch; RoHS: Y; PinCount: 9; DigiKeyPartNumber: LM3687TL-1812EV-ND; Code_JEDEC: MO-211-DD; ComponentLink1Description: LM3687 Datasheet; ComponentLink1URL: http://www.national.com/ds/LM/LM3687.pdf; ComponentLink2Description: LM3687 Web Page; ComponentLink2URL: http://www.national.com/pf/LM/LM3687.html; ComponentLink3Description: TLA09BBA Package Page; ComponentLink3URL: http://www.national.com/packaging/folders/tla09bba.html
footprint TLA09BBA (Micro SMD, 9-Leads, Body 1.54x1.54mm, Pitch 0.5mm, NSC Recommended)
pins: A1 PGND (power), A2 SGND (power), A3 VOUT_LIN (out), B1 SW (power), B2 EN_DCDC (in), B3 VIN_LIN (power), C1 VBATT (power), C2 FB_DCDC (in), C3 EN_LIN (power)

## LM3687TL-1815
designator U?
Step-Down DC-DC Converter with Integrated Low Dropout Regulator and Startup Mode; PartNumber: LM3687TL-1815; Manufacturer: National Semiconductor; CompType: MiscPower; PackageTopMarking: XV*I S9; PowerWise: Y; Published: 4-Dec-2008; DatasheetVersion: Jul-2008; PackageVersion: revC, Jan-2004; PackageReference: TLA09BBA; Publisher: Altium Limited; PackageDescription: Thin Micro SMD, 9 Bump (Large), 0.5mm Pitch; RoHS: Y; PinCount: 9; DigiKeyPartNumber: LM3687TL-1815EV-ND; Code_JEDEC: MO-211-DD; ComponentLink1Description: LM3687 Datasheet; ComponentLink1URL: http://www.national.com/ds/LM/LM3687.pdf; ComponentLink2Description: LM3687 Web Page; ComponentLink2URL: http://www.national.com/pf/LM/LM3687.html; ComponentLink3Description: TLA09BBA Package Page; ComponentLink3URL: http://www.national.com/packaging/folders/tla09bba.html
footprint TLA09BBA (Micro SMD, 9-Leads, Body 1.54x1.54mm, Pitch 0.5mm, NSC Recommended)
pins: A1 PGND (power), A2 SGND (power), A3 VOUT_LIN (out), B1 SW (power), B2 EN_DCDC (in), B3 VIN_LIN (power), C1 VBATT (power), C2 FB_DCDC (in), C3 EN_LIN (power)

## LM3691TL-2.5
designator U?
High Accuracy, Miniature 1A, Step-Down DC-DC Converter for Portable Applications, PowerWise; PartNumber: LM3691TL-2.5; Manufacturer: National Semiconductor; CompType: MiscPower; PackageTopMarking: XV*I 8; PowerWise: N; Published: 29-May-2009; DatasheetVersion: Jan-2009; PackageVersion: revC, Jan-2004; PackageReference: TLA06LCA; Publisher: Altium Limited; PackageDescription: Thin Micro SMD, 6 Bump (Large), 0.5mm Pitch; RoHS: Y; PinCount: 6; Code_JEDEC: MO-211-DB; ComponentLink1Description: LM3691 Datasheet; ComponentLink1URL: http://www.national.com/ds/LM/LM3691.pdf; ComponentLink2Description: LM3691 Web Page; ComponentLink2URL: http://www.national.com/pf/LM/LM3691.html; ComponentLink3Description: TLA06LCA Package Page; ComponentLink3URL: http://www.national.com/packaging/folders/tla06lca.html
footprint TLA06LCA (Micro SMD, 6-Leads, Body 1.57x1.26mm, Pitch 0.5mm, NSC Recommended)
pins: A1 EN (in), A2 VIN (power), B1 MODE (in), B2 SW (power), C1 FB (in), C2 GND (power)

## LM3700XCBPX-290
designator U?
Microprocessor Supervisory Circuit with Low Line Output; PartNumber: LM3700XCBPX-290; Manufacturer: National Semiconductor; CompType: MiscPower; PackageTopMarking: XVR*I 23; Published: 4-Dec-2008; DatasheetVersion: Sep-2003; PackageVersion: revC, Jan-2002; PackageReference: BPA09FFB; Publisher: Altium Limited; PackageDescription: Micro SMD, 9 Bump, 0.5mm Pitch; RoHS: N; PinCount: 9; DigiKeyPartNumber: LM3700XCBPX-290-ND; Code_JEDEC: MO-211-BC; ComponentLink1Description: LM3700 Datasheet; ComponentLink1URL: http://www.national.com/ds/LM/LM3700.pdf; ComponentLink2Description: LM3700 Web Page; ComponentLink2URL: http://www.national.com/pf/LM/LM3700.html; ComponentLink3Description: BPA09FFB Package Page; ComponentLink3URL: http://www.national.com/packaging/folders/bpa09ffb.html
footprint BPA09FFB (Micro SMD, 9-Leads, Body 1.41x1.41mm, Pitch 0.5mm, NSC Recommended)
part A pins: B1 VCC (power), B3 GND (power), C1 ~{RESET} (out), C3 ~{LLO} (out)
part B pins: A1 NC, A2 NC, A3 NC, B2 NC, C2 NC

## LM3700XCTP-296
designator U?
Microprocessor Supervisory Circuit with Low Line Output; PartNumber: LM3700XCTP-296; Manufacturer: National Semiconductor; CompType: MiscPower; PackageTopMarking: XVR*I 37; PowerWise: N; Published: 4-Dec-2008; DatasheetVersion: Sep-2003; PackageVersion: revA, Mar-2002; PackageReference: TPA09FFA; Publisher: Altium Limited; PackageDescription: Thin Micro SMD, 9 Bump, 0.5mm Pitch; RoHS: Y; PinCount: 9; DigiKeyPartNumber: LM3700XCTP-296CT-ND; Code_JEDEC: MO-211-BC; ComponentLink1Description: LM3700 Datasheet; ComponentLink1URL: http://www.national.com/ds/LM/LM3700.pdf; ComponentLink2Description: LM3700 Web Page; ComponentLink2URL: http://www.national.com/pf/LM/LM3700.html; ComponentLink3Description: TPA09FFA Package Page; ComponentLink3URL: http://www.national.com/packaging/folders/tpa09ffa.html
footprint TPA09FFA (Micro SMD, 9-Leads, Body 1.41x1.41mm, Pitch 0.5mm, NSC Recommended)
part A pins: B1 VCC (power), B3 GND (power), C1 ~{RESET} (out), C3 ~{LLO} (out)
part B pins: A1 NC, A2 NC, A3 NC, B2 NC, C2 NC

## LM3702XCTP-308
designator U?
Microprocessor Supervisory Circuits with Low Line Output and Manual Reset; PartNumber: LM3702XCTP-308; Manufacturer: National Semiconductor; CompType: MiscPower; PackageTopMarking: XVR*I 38; PowerWise: N; Published: 4-Dec-2008; DatasheetVersion: Sep-2003; PackageVersion: revA, Mar-2002; PackageReference: TPA09FFA; Publisher: Altium Limited; PackageDescription: Thin Micro SMD, 9 Bump, 0.5mm Pitch; RoHS: Y; PinCount: 9; DigiKeyPartNumber: LM3702XCTP-308CT-ND; Code_JEDEC: MO-211-BC; ComponentLink1Description: LM3702 Datasheet; ComponentLink1URL: http://www.national.com/ds/LM/LM3702.pdf; ComponentLink2Description: LM3702 Web Page; ComponentLink2URL: http://www.national.com/pf/LM/LM3702.html; ComponentLink3Description: TPA09FFA Package Page; ComponentLink3URL: http://www.national.com/packaging/folders/tpa09ffa.html
footprint TPA09FFA (Micro SMD, 9-Leads, Body 1.41x1.41mm, Pitch 0.5mm, NSC Recommended)
part A pins: A1 ~{MR} (in), B1 VCC (power), B3 GND (power), C1 ~{RESET} (out), C3 ~{LLO} (out)
part B pins: A2 NC, A3 NC, B2 NC, C2 NC

## LM3702YATP-290
designator U?
Microprocessor Supervisory Circuits with Low Line Output and Manual Reset; PartNumber: LM3702YATP-290; Manufacturer: National Semiconductor; CompType: MiscPower; PackageTopMarking: XVR*I 42; PowerWise: N; Published: 4-Dec-2008; DatasheetVersion: Sep-2003; PackageVersion: revA, Mar-2002; PackageReference: TPA09FFA; Publisher: Altium Limited; PackageDescription: Thin Micro SMD, 9 Bump, 0.5mm Pitch; RoHS: Y; PinCount: 9; Code_JEDEC: MO-211-BC; ComponentLink1Description: LM3702 Datasheet; ComponentLink1URL: http://www.national.com/ds/LM/LM3702.pdf; ComponentLink2Description: LM3702 Web Page; ComponentLink2URL: http://www.national.com/pf/LM/LM3702.html; ComponentLink3Description: TPA09FFA Package Page; ComponentLink3URL: http://www.national.com/packaging/folders/tpa09ffa.html
footprint TPA09FFA (Micro SMD, 9-Leads, Body 1.41x1.41mm, Pitch 0.5mm, NSC Recommended)
part A pins: A1 ~{MR} (in), B1 VCC (power), B3 GND (power), C1 ~{RESET} (out), C3 ~{LLO} (out)
part B pins: A2 NC, A3 NC, B2 NC, C2 NC

## LM3702YATP-308
designator U?
Microprocessor Supervisory Circuits with Low Line Output and Manual Reset; PartNumber: LM3702YATP-308; Manufacturer: National Semiconductor; CompType: MiscPower; PackageTopMarking: XVR*I 39; PowerWise: N; Published: 4-Dec-2008; DatasheetVersion: Sep-2003; PackageVersion: revA, Mar-2002; PackageReference: TPA09FFA; Publisher: Altium Limited; PackageDescription: Thin Micro SMD, 9 Bump, 0.5mm Pitch; RoHS: Y; PinCount: 9; Code_JEDEC: MO-211-BC; ComponentLink1Description: LM3702 Datasheet; ComponentLink1URL: http://www.national.com/ds/LM/LM3702.pdf; ComponentLink2Description: LM3702 Web Page; ComponentLink2URL: http://www.national.com/pf/LM/LM3702.html; ComponentLink3Description: TPA09FFA Package Page; ComponentLink3URL: http://www.national.com/packaging/folders/tpa09ffa.html
footprint TPA09FFA (Micro SMD, 9-Leads, Body 1.41x1.41mm, Pitch 0.5mm, NSC Recommended)
part A pins: A1 ~{MR} (in), B1 VCC (power), B3 GND (power), C1 ~{RESET} (out), C3 ~{LLO} (out)
part B pins: A2 NC, A3 NC, B2 NC, C2 NC

## LM3702YDTP-220
designator U?
Microprocessor Supervisory Circuits with Low Line Output and Manual Reset; PartNumber: LM3702YDTP-220; Manufacturer: National Semiconductor; CompType: MiscPower; PackageTopMarking: XVR*I 35; PowerWise: N; Published: 4-Dec-2008; DatasheetVersion: Sep-2003; PackageVersion: revA, Mar-2002; PackageReference: TPA09FFA; Publisher: Altium Limited; PackageDescription: Thin Micro SMD, 9 Bump, 0.5mm Pitch; RoHS: Y; PinCount: 9; DigiKeyPartNumber: LM3702YDTP-220CT-ND; Code_JEDEC: MO-211-BC; ComponentLink1Description: LM3702 Datasheet; ComponentLink1URL: http://www.national.com/ds/LM/LM3702.pdf; ComponentLink2Description: LM3702 Web Page; ComponentLink2URL: http://www.national.com/pf/LM/LM3702.html; ComponentLink3Description: TPA09FFA Package Page; ComponentLink3URL: http://www.national.com/packaging/folders/tpa09ffa.html
footprint TPA09FFA (Micro SMD, 9-Leads, Body 1.41x1.41mm, Pitch 0.5mm, NSC Recommended)
part A pins: A1 ~{MR} (in), B1 VCC (power), B3 GND (power), C1 ~{RESET} (out), C3 ~{LLO} (out)
part B pins: A2 NC, A3 NC, B2 NC, C2 NC

## LM3704XBMM-232
designator U?
Microprocessor Supervisory Circuits with Power Fail Input, Low Line Output and Manual Reset; PartNumber: LM3704XBMM-232; Manufacturer: National Semiconductor; CompType: MiscPower; PackageTopMarking: ZXTT*R66B; Published: 4-Dec-2008; DatasheetVersion: Sep-2003; PackageVersion: revB, Jul-2003; PackageReference: MUB10A; Publisher: Altium Limited; PackageDescription: Mini-SO, Molded, .118 x .118 x .034in Body, 10 Lead, .0197in Pitch; RoHS: Y; PinCount: 10; DigiKeyPartNumber: LM3704XBMM-232CT-ND; Code_JEDEC: MO-187-BA; ComponentLink1Description: LM3704 Datasheet; ComponentLink1URL: http://www.national.com/ds/LM/LM3704.pdf; ComponentLink2Description: LM3704 Web Page; ComponentLink2URL: http://www.national.com/pf/LM/LM3704.html; ComponentLink3Description: MUB10A Package Page; ComponentLink3URL: http://www.national.com/packaging/folders/mub10a.html
footprint MUB10A_N (TSSOP, 10-Leads, Body 3x3mm, Pitch 0.5mm, IPC Medium Density)
footprint MUB10A_L (TSSOP, 10-Leads, Body 3x3mm, Pitch 0.5mm, IPC High Density)
footprint MUB10A_M (TSSOP, 10-Leads, Body 3x3mm, Pitch 0.5mm, IPC Low Density)
pins: 1 VCC (power), 2 ~{MR} (in), 3 PFI (in), 4 NC, 5 GND (power), 6 NC, 7 ~{LLO} (out), 8 ~{PFO} (out), 9 NC, 10 ~{RESET} (out)

## LM3704XBMM-463
designator U?
Microprocessor Supervisory Circuits with Power Fail Input, Low Line Output and Manual Reset; PartNumber: LM3704XBMM-463; Manufacturer: National Semiconductor; CompType: MiscPower; PackageTopMarking: ZXTT*R27B; Published: 4-Dec-2008; DatasheetVersion: Sep-2003; PackageVersion: revB, Jul-2003; PackageReference: MUB10A; Publisher: Altium Limited; PackageDescription: Mini-SO, Molded, .118 x .118 x .034in Body, 10 Lead, .0197in Pitch; RoHS: Y; PinCount: 10; DigiKeyPartNumber: LM3704XBMM-463CT-ND; Code_JEDEC: MO-187-BA; ComponentLink1Description: LM3704 Datasheet; ComponentLink1URL: http://www.national.com/ds/LM/LM3704.pdf; ComponentLink2Description: LM3704 Web Page; ComponentLink2URL: http://www.national.com/pf/LM/LM3704.html; ComponentLink3Description: MUB10A Package Page; ComponentLink3URL: http://www.national.com/packaging/folders/mub10a.html
footprint MUB10A_N (TSSOP, 10-Leads, Body 3x3mm, Pitch 0.5mm, IPC Medium Density)
footprint MUB10A_L (TSSOP, 10-Leads, Body 3x3mm, Pitch 0.5mm, IPC High Density)
footprint MUB10A_M (TSSOP, 10-Leads, Body 3x3mm, Pitch 0.5mm, IPC Low Density)
pins: 1 VCC (power), 2 ~{MR} (in), 3 PFI (in), 4 NC, 5 GND (power), 6 NC, 7 ~{LLO} (out), 8 ~{PFO} (out), 9 NC, 10 ~{RESET} (out)

## LM3704XCMM-263
designator U?
Microprocessor Supervisory Circuits with Power Fail Input, Low Line Output and Manual Reset; PartNumber: LM3704XCMM-263; Manufacturer: National Semiconductor; CompType: MiscPower; PackageTopMarking: ZXTT*R79B; Published: 4-Dec-2008; DatasheetVersion: Sep-2003; PackageVersion: revB, Jul-2003; PackageReference: MUB10A; Publisher: Altium Limited; PackageDescription: Mini-SO, Molded, .118 x .118 x .034in Body, 10 Lead, .0197in Pitch; RoHS: Y; PinCount: 10; DigiKeyPartNumber: LM3704XCMM-263CT-ND; Code_JEDEC: MO-187-BA; ComponentLink1Description: LM3704 Datasheet; ComponentLink1URL: http://www.national.com/ds/LM/LM3704.pdf; ComponentLink2Description: LM3704 Web Page; ComponentLink2URL: http://www.national.com/pf/LM/LM3704.html; ComponentLink3Description: MUB10A Package Page; ComponentLink3URL: http://www.national.com/packaging/folders/mub10a.html
footprint MUB10A_N (TSSOP, 10-Leads, Body 3x3mm, Pitch 0.5mm, IPC Medium Density)
footprint MUB10A_L (TSSOP, 10-Leads, Body 3x3mm, Pitch 0.5mm, IPC High Density)
footprint MUB10A_M (TSSOP, 10-Leads, Body 3x3mm, Pitch 0.5mm, IPC Low Density)
pins: 1 VCC (power), 2 ~{MR} (in), 3 PFI (in), 4 NC, 5 GND (power), 6 NC, 7 ~{LLO} (out), 8 ~{PFO} (out), 9 NC, 10 ~{RESET} (out)